# EAGLE library part 691413720007 (library Wurth_Elektronik_Electromechanic_Terminal_Blocks_Connectors_rev16b)
WR-TBL Terminal block - serie 413 5.0mm - Spring clamp/Screw less - 45° entry - 07p Code:Con_TBL_Screwless_5.00_6914137200xxB_691413720007 Created 2014-12-22, aslant tao 2014 (C) Würth Elektronik
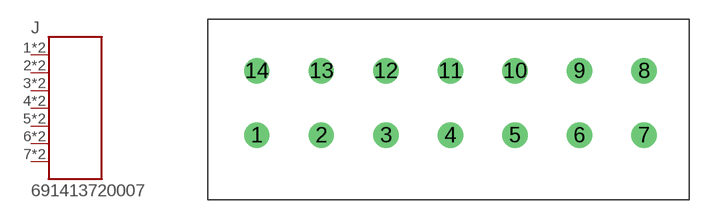
[diagram p254: symbol with the pads of 691413720007; footprint 691413720007]

Designator prefix J

## 691413720007  [691413720007]
1  1  pas
2  2  pas
3  3  pas
4  4  pas
5  5  pas
6  6  pas
7  7  pas
8  7  pas
9  6  pas
10  5  pas
11  4  pas
12  3  pas
13  2  pas
14  1  pas

## Footprint 691413720007 (pad centres in mm)
WR-TBL Serie 413 - 5.0mm Screwless 45° Entry - 3 mm2 Wires, 7 Pins
drill 1.3: 1 -10,-2.5; 2 -5,-2.5; 3 0,-2.5; 4 5,-2.5; 5 10,-2.5; 6 15,-2.5; 7 20,-2.5; 8 20,2.5; 9 15,2.5; 10 10,2.5; 11 5,2.5; 12 0,2.5; 13 -5,2.5; 14 -10,2.5